# EAGLE library part DG419LDQ-T1-E3 (library Vishay_By_element14_Batch_1)
Low-Voltage CMOS Analog Switches
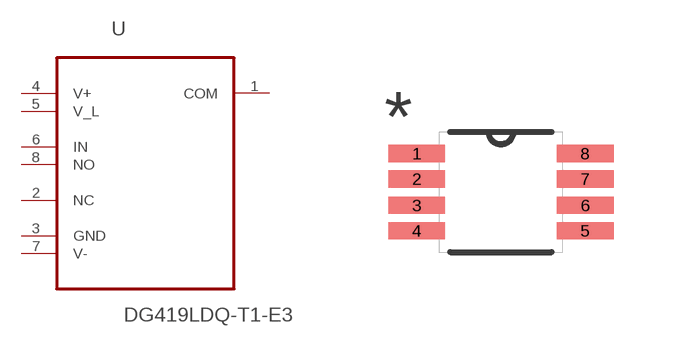
[diagram p53: symbol with the pads of SOP65P490X110-8N; footprint SOP65P490X110-8N]

Designator prefix U

## DG419LDQ-T1-E3 (MPN: DG419LDQ-T1-E3; OC_FARNELL: 1339532; OC_NEWARK: 49K9624; PACKAGE: MSOP-8; SUPPLIER: VISHAY SILICONIX)  [SOP65P490X110-8N]
1  COM  out
2  NC  nc
3  GND  pas
4  V+  pwr
5  V_L  in
6  IN  in
7  V-  in
8  NO  nc

## Footprint SOP65P490X110-8N (pad centres in mm)
smd 1.422 x 0.432: 1 -2.108,0.965; 2 -2.108,0.33; 3 -2.108,-0.33; 4 -2.108,-0.965; 5 2.108,-0.965; 6 2.108,-0.33; 7 2.108,0.33; 8 2.108,0.965